# EAGLE library part MSWA-2-20 (library ic)
MSWA-2-20: SPDT GaAs switch (Mini-Circuits)
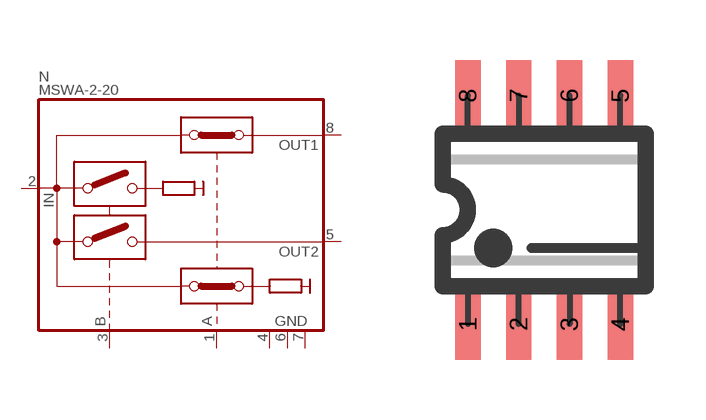
[diagram p121: symbol with the pads of SO08; footprint SO08]

Designator prefix N

## MSWA-2-20  [SO08]
1  A  in
2  IN  in
3  B  in
4  GND
5  OUT2  out
6  GND
7  GND
8  OUT1  out

## Footprint SO08 (pad centres in mm)
SO-8, SMD SOIC IC package, 8 pins
smd 0.635 x 1.778: 1 -1.905,-2.857; 2 -0.635,-2.857; 3 0.635,-2.857; 4 1.905,-2.857; 5 1.905,2.857; 6 0.635,2.857; 7 -0.635,2.857; 8 -1.905,2.857